# Altium schematic symbol library WA-SMSE.SchLib: 22 symbols
Pins are listed as number, name and electrical type; pins without a type are passive.

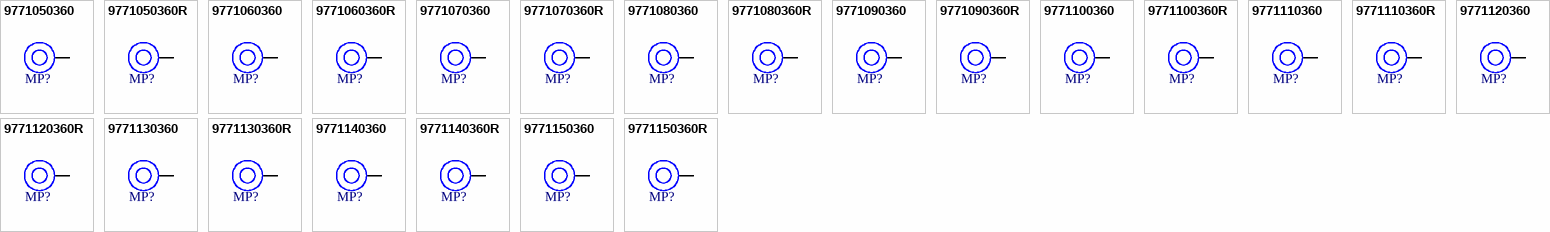
[diagram p0: symbols 9771050360 to 9771150360R]

## 9771050360
designator MP?, comment M3 x 5mm  (value not drawn)
WA-SMSE Steel Spacer with external thread, OD 6mm, M3 x 5mm; Manufacturer Part Number: 9771050360; Manufacturer: Wurth Elektronik; Surface: Tin; ComponentLink1Description: Website Link; ComponentLink1URL: https://www.we-online.com/redexpert/article/9771050360?ad; ComponentLink2Description: Datasheet Link; ComponentLink2URL: https://www.we-online.com/redexpert/spec/9771050360?ad; Category: SMT Spacers; Match Code: WA-SMSE; Mount: Surface Mount; Operating Temperature Max: 150°C; Operating Temperature Min: -55°C; Packaging: Bulk; Height: 5mm; Material: Steel; Outside Diameter: 6mm; Thread Size: M3
footprint 9771050360
pins: 1

## 9771050360R
designator MP?, comment M3 x 5mm  (value not drawn)
WA-SMSE Steel Spacer with external thread, OD 6mm, M3 x 5mm; Manufacturer Part Number: 9771050360R; Manufacturer: Wurth Elektronik; Surface: Tin; ComponentLink1Description: Website Link; ComponentLink1URL: https://www.we-online.com/redexpert/article/9771050360R?ad; ComponentLink2Description: Datasheet Link; ComponentLink2URL: https://www.we-online.com/redexpert/spec/9771050360R?ad; Category: SMT Spacers; Match Code: WA-SMSE; Mount: Surface Mount; Operating Temperature Max: 150°C; Operating Temperature Min: -55°C; Packaging: Tape and Reel; Height: 5mm; Material: Steel; Outside Diameter: 6mm; Thread Size: M3
footprint 9771050360
pins: 1

## 9771060360
designator MP?, comment M3 x 6mm  (value not drawn)
WA-SMSE Steel Spacer with external thread, OD 6mm, M3 x 6mm; Manufacturer Part Number: 9771060360; Manufacturer: Wurth Elektronik; Surface: Tin; ComponentLink1Description: Website Link; ComponentLink1URL: https://www.we-online.com/redexpert/article/9771060360?ad; ComponentLink2Description: Datasheet Link; ComponentLink2URL: https://www.we-online.com/redexpert/spec/9771060360?ad; Category: SMT Spacers; Match Code: WA-SMSE; Mount: Surface Mount; Operating Temperature Max: 150°C; Operating Temperature Min: -55°C; Packaging: Bulk; Height: 6mm; Material: Steel; Outside Diameter: 6mm; Thread Size: M3
footprint 9771060360
pins: 1

## 9771060360R
designator MP?, comment M3 x 6mm  (value not drawn)
WA-SMSE Steel Spacer with external thread, OD 6mm, M3 x 6mm; Manufacturer Part Number: 9771060360R; Manufacturer: Wurth Elektronik; Surface: Tin; ComponentLink1Description: Website Link; ComponentLink1URL: https://www.we-online.com/redexpert/article/9771060360R?ad; ComponentLink2Description: Datasheet Link; ComponentLink2URL: https://www.we-online.com/redexpert/spec/9771060360R?ad; Category: SMT Spacers; Match Code: WA-SMSE; Mount: Surface Mount; Operating Temperature Max: 150°C; Operating Temperature Min: -55°C; Packaging: Tape and Reel; Height: 6mm; Material: Steel; Outside Diameter: 6mm; Thread Size: M3
footprint 9771060360
pins: 1

## 9771070360
designator MP?, comment M3 x 7mm  (value not drawn)
WA-SMSE Steel Spacer with external thread, OD 6mm, M3 x 7mm; Manufacturer Part Number: 9771070360; Manufacturer: Wurth Elektronik; Surface: Tin; ComponentLink1Description: Website Link; ComponentLink1URL: https://www.we-online.com/redexpert/article/9771070360?ad; ComponentLink2Description: Datasheet Link; ComponentLink2URL: https://www.we-online.com/redexpert/spec/9771070360?ad; Category: SMT Spacers; Match Code: WA-SMSE; Mount: Surface Mount; Operating Temperature Max: 150°C; Operating Temperature Min: -55°C; Packaging: Bulk; Height: 7mm; Material: Steel; Outside Diameter: 6mm; Thread Size: M3
footprint 9771070360
pins: 1

## 9771070360R
designator MP?, comment M3 x 7mm  (value not drawn)
WA-SMSE Steel Spacer with external thread, OD 6mm, M3 x 7mm; Manufacturer Part Number: 9771070360R; Manufacturer: Wurth Elektronik; Surface: Tin; ComponentLink1Description: Website Link; ComponentLink1URL: https://www.we-online.com/redexpert/article/9771070360R?ad; ComponentLink2Description: Datasheet Link; ComponentLink2URL: https://www.we-online.com/redexpert/spec/9771070360R?ad; Category: SMT Spacers; Match Code: WA-SMSE; Mount: Surface Mount; Operating Temperature Max: 150°C; Operating Temperature Min: -55°C; Packaging: Tape and Reel; Height: 7mm; Material: Steel; Outside Diameter: 6mm; Thread Size: M3
footprint 9771070360
pins: 1

## 9771080360
designator MP?, comment M3 x 8mm  (value not drawn)
WA-SMSE Steel Spacer with external thread, OD 6mm, M3 x 8mm; Manufacturer Part Number: 9771080360; Manufacturer: Wurth Elektronik; Surface: Tin; ComponentLink1Description: Website Link; ComponentLink1URL: https://www.we-online.com/redexpert/article/9771080360?ad; ComponentLink2Description: Datasheet Link; ComponentLink2URL: https://www.we-online.com/redexpert/spec/9771080360?ad; Category: SMT Spacers; Match Code: WA-SMSE; Mount: Surface Mount; Operating Temperature Max: 150°C; Operating Temperature Min: -55°C; Packaging: Bulk; Height: 8mm; Material: Steel; Outside Diameter: 6mm; Thread Size: M3
footprint 9771080360
pins: 1

## 9771080360R
designator MP?, comment M3 x 8mm  (value not drawn)
WA-SMSE Steel Spacer with external thread, OD 6mm, M3 x 8mm; Manufacturer Part Number: 9771080360R; Manufacturer: Wurth Elektronik; Surface: Tin; ComponentLink1Description: Website Link; ComponentLink1URL: https://www.we-online.com/redexpert/article/9771080360R?ad; ComponentLink2Description: Datasheet Link; ComponentLink2URL: https://www.we-online.com/redexpert/spec/9771080360R?ad; Category: SMT Spacers; Match Code: WA-SMSE; Mount: Surface Mount; Operating Temperature Max: 150°C; Operating Temperature Min: -55°C; Packaging: Tape and Reel; Height: 8mm; Material: Steel; Outside Diameter: 6mm; Thread Size: M3
footprint 9771080360
pins: 1

## 9771090360
designator MP?, comment M3 x 9mm  (value not drawn)
WA-SMSE Steel Spacer with external thread, OD 6mm, M3 x 9mm; Manufacturer Part Number: 9771090360; Manufacturer: Wurth Elektronik; Surface: Tin; ComponentLink1Description: Website Link; ComponentLink1URL: https://www.we-online.com/redexpert/article/9771090360?ad; ComponentLink2Description: Datasheet Link; ComponentLink2URL: https://www.we-online.com/redexpert/spec/9771090360?ad; Category: SMT Spacers; Match Code: WA-SMSE; Mount: Surface Mount; Operating Temperature Max: 150°C; Operating Temperature Min: -55°C; Packaging: Bulk; Height: 9mm; Material: Steel; Outside Diameter: 6mm; Thread Size: M3
footprint 9771090360
pins: 1

## 9771090360R
designator MP?, comment M3 x 9mm  (value not drawn)
WA-SMSE Steel Spacer with external thread, OD 6mm, M3 x 9mm; Manufacturer Part Number: 9771090360R; Manufacturer: Wurth Elektronik; Surface: Tin; ComponentLink1Description: Website Link; ComponentLink1URL: https://www.we-online.com/redexpert/article/9771090360R?ad; ComponentLink2Description: Datasheet Link; ComponentLink2URL: https://www.we-online.com/redexpert/spec/9771090360R?ad; Category: SMT Spacers; Match Code: WA-SMSE; Mount: Surface Mount; Operating Temperature Max: 150°C; Operating Temperature Min: -55°C; Packaging: Tape and Reel; Height: 9mm; Material: Steel; Outside Diameter: 6mm; Thread Size: M3
footprint 9771090360
pins: 1

## 9771100360
designator MP?, comment M3 x 10mm  (value not drawn)
WA-SMSE Steel Spacer with external thread, OD 6mm, M3 x 10mm; Manufacturer Part Number: 9771100360; Manufacturer: Wurth Elektronik; Surface: Tin; ComponentLink1Description: Website Link; ComponentLink1URL: https://www.we-online.com/redexpert/article/9771100360?ad; ComponentLink2Description: Datasheet Link; ComponentLink2URL: https://www.we-online.com/redexpert/spec/9771100360?ad; Category: SMT Spacers; Match Code: WA-SMSE; Mount: Surface Mount; Operating Temperature Max: 150°C; Operating Temperature Min: -55°C; Packaging: Bulk; Height: 10mm; Material: Steel; Outside Diameter: 6mm; Thread Size: M3
footprint 9771100360
pins: 1

## 9771100360R
designator MP?, comment M3 x 10mm  (value not drawn)
WA-SMSE Steel Spacer with external thread, OD 6mm, M3 x 10mm; Manufacturer Part Number: 9771100360R; Manufacturer: Wurth Elektronik; Surface: Tin; ComponentLink1Description: Website Link; ComponentLink1URL: https://www.we-online.com/redexpert/article/9771100360R?ad; ComponentLink2Description: Datasheet Link; ComponentLink2URL: https://www.we-online.com/redexpert/spec/9771100360R?ad; Category: SMT Spacers; Match Code: WA-SMSE; Mount: Surface Mount; Operating Temperature Max: 150°C; Operating Temperature Min: -55°C; Packaging: Tape and Reel; Height: 10mm; Material: Steel; Outside Diameter: 6mm; Thread Size: M3
footprint 9771100360
pins: 1

## 9771110360
designator MP?, comment M3 x 11mm  (value not drawn)
WA-SMSE Steel Spacer with external thread, OD 6mm, M3 x 11mm; Manufacturer Part Number: 9771110360; Manufacturer: Wurth Elektronik; Surface: Tin; ComponentLink1Description: Website Link; ComponentLink1URL: https://www.we-online.com/redexpert/article/9771110360?ad; ComponentLink2Description: Datasheet Link; ComponentLink2URL: https://www.we-online.com/redexpert/spec/9771110360?ad; Category: SMT Spacers; Match Code: WA-SMSE; Mount: Surface Mount; Operating Temperature Max: 150°C; Operating Temperature Min: -55°C; Packaging: Bulk; Height: 11mm; Material: Steel; Outside Diameter: 6mm; Thread Size: M3
footprint 9771110360
pins: 1

## 9771110360R
designator MP?, comment M3 x 11mm  (value not drawn)
WA-SMSE Steel Spacer with external thread, OD 6mm, M3 x 11mm; Manufacturer Part Number: 9771110360R; Manufacturer: Wurth Elektronik; Surface: Tin; ComponentLink1Description: Website Link; ComponentLink1URL: https://www.we-online.com/redexpert/article/9771110360R?ad; ComponentLink2Description: Datasheet Link; ComponentLink2URL: https://www.we-online.com/redexpert/spec/9771110360R?ad; Category: SMT Spacers; Match Code: WA-SMSE; Mount: Surface Mount; Operating Temperature Max: 150°C; Operating Temperature Min: -55°C; Packaging: Tape and Reel; Height: 11mm; Material: Steel; Outside Diameter: 6mm; Thread Size: M3
footprint 9771110360
pins: 1

## 9771120360
designator MP?, comment M3 x 12mm  (value not drawn)
WA-SMSE Steel Spacer with external thread, OD 6mm, M3 x 12mm; Manufacturer Part Number: 9771120360; Manufacturer: Wurth Elektronik; Surface: Tin; ComponentLink1Description: Website Link; ComponentLink1URL: https://www.we-online.com/redexpert/article/9771120360?ad; ComponentLink2Description: Datasheet Link; ComponentLink2URL: https://www.we-online.com/redexpert/spec/9771120360?ad; Category: SMT Spacers; Match Code: WA-SMSE; Mount: Surface Mount; Operating Temperature Max: 150°C; Operating Temperature Min: -55°C; Packaging: Bulk; Height: 12mm; Material: Steel; Outside Diameter: 6mm; Thread Size: M3
footprint 9771120360
pins: 1

## 9771120360R
designator MP?, comment M3 x 12mm  (value not drawn)
WA-SMSE Steel Spacer with external thread, OD 6mm, M3 x 12mm; Manufacturer Part Number: 9771120360R; Manufacturer: Wurth Elektronik; Surface: Tin; ComponentLink1Description: Website Link; ComponentLink1URL: https://www.we-online.com/redexpert/article/9771120360R?ad; ComponentLink2Description: Datasheet Link; ComponentLink2URL: https://www.we-online.com/redexpert/spec/9771120360R?ad; Category: SMT Spacers; Match Code: WA-SMSE; Mount: Surface Mount; Operating Temperature Max: 150°C; Operating Temperature Min: -55°C; Packaging: Tape and Reel; Height: 12mm; Material: Steel; Outside Diameter: 6mm; Thread Size: M3
footprint 9771120360
pins: 1

## 9771130360
designator MP?, comment M3 x 13mm  (value not drawn)
WA-SMSE Steel Spacer with external thread, OD 6mm, M3 x 13mm; Manufacturer Part Number: 9771130360; Manufacturer: Wurth Elektronik; Surface: Tin; ComponentLink1Description: Website Link; ComponentLink1URL: https://www.we-online.com/redexpert/article/9771130360?ad; ComponentLink2Description: Datasheet Link; ComponentLink2URL: https://www.we-online.com/redexpert/spec/9771130360?ad; Category: SMT Spacers; Match Code: WA-SMSE; Mount: Surface Mount; Operating Temperature Max: 150°C; Operating Temperature Min: -55°C; Packaging: Bulk; Height: 13mm; Material: Steel; Outside Diameter: 6mm; Thread Size: M3
footprint 9771130360
pins: 1

## 9771130360R
designator MP?, comment M3 x 13mm  (value not drawn)
WA-SMSE Steel Spacer with external thread, OD 6mm, M3 x 13mm; Manufacturer Part Number: 9771130360R; Manufacturer: Wurth Elektronik; Surface: Tin; ComponentLink1Description: Website Link; ComponentLink1URL: https://www.we-online.com/redexpert/article/9771130360R?ad; ComponentLink2Description: Datasheet Link; ComponentLink2URL: https://www.we-online.com/redexpert/spec/9771130360R?ad; Category: SMT Spacers; Match Code: WA-SMSE; Mount: Surface Mount; Operating Temperature Max: 150°C; Operating Temperature Min: -55°C; Packaging: Tape and Reel; Height: 13mm; Material: Steel; Outside Diameter: 6mm; Thread Size: M3
footprint 9771130360
pins: 1

## 9771140360
designator MP?, comment M3 x 14mm  (value not drawn)
WA-SMSE Steel Spacer with external thread, OD 6mm, M3 x 14mm; Manufacturer Part Number: 9771140360; Manufacturer: Wurth Elektronik; Surface: Tin; ComponentLink1Description: Website Link; ComponentLink1URL: https://www.we-online.com/redexpert/article/9771140360?ad; ComponentLink2Description: Datasheet Link; ComponentLink2URL: https://www.we-online.com/redexpert/spec/9771140360?ad; Category: SMT Spacers; Match Code: WA-SMSE; Mount: Surface Mount; Operating Temperature Max: 150°C; Operating Temperature Min: -55°C; Packaging: Bulk; Height: 14mm; Material: Steel; Outside Diameter: 6mm; Thread Size: M3
footprint 9771140360
pins: 1

## 9771140360R
designator MP?, comment M3 x 14mm  (value not drawn)
WA-SMSE Steel Spacer with external thread, OD 6mm, M3 x 14mm; Manufacturer Part Number: 9771140360R; Manufacturer: Wurth Elektronik; Surface: Tin; ComponentLink1Description: Website Link; ComponentLink1URL: https://www.we-online.com/redexpert/article/9771140360R?ad; ComponentLink2Description: Datasheet Link; ComponentLink2URL: https://www.we-online.com/redexpert/spec/9771140360R?ad; Category: SMT Spacers; Match Code: WA-SMSE; Mount: Surface Mount; Operating Temperature Max: 150°C; Operating Temperature Min: -55°C; Packaging: Tape and Reel; Height: 14mm; Material: Steel; Outside Diameter: 6mm; Thread Size: M3
footprint 9771140360
pins: 1

## 9771150360
designator MP?, comment M3 x 15mm  (value not drawn)
WA-SMSE Steel Spacer with external thread, OD 6mm, M3 x 15mm; Manufacturer Part Number: 9771150360; Manufacturer: Wurth Elektronik; Surface: Tin; ComponentLink1Description: Website Link; ComponentLink1URL: https://www.we-online.com/redexpert/article/9771150360?ad; ComponentLink2Description: Datasheet Link; ComponentLink2URL: https://www.we-online.com/redexpert/spec/9771150360?ad; Category: SMT Spacers; Match Code: WA-SMSE; Mount: Surface Mount; Operating Temperature Max: 150°C; Operating Temperature Min: -55°C; Packaging: Bulk; Height: 15mm; Material: Steel; Outside Diameter: 6mm; Thread Size: M3
footprint 9771150360
pins: 1

## 9771150360R
designator MP?, comment M3 x 15mm  (value not drawn)
WA-SMSE Steel Spacer with external thread, OD 6mm, M3 x 15mm; Manufacturer Part Number: 9771150360R; Manufacturer: Wurth Elektronik; Surface: Tin; ComponentLink1Description: Website Link; ComponentLink1URL: https://www.we-online.com/redexpert/article/9771150360R?ad; ComponentLink2Description: Datasheet Link; ComponentLink2URL: https://www.we-online.com/redexpert/spec/9771150360R?ad; Category: SMT Spacers; Match Code: WA-SMSE; Mount: Surface Mount; Operating Temperature Max: 150°C; Operating Temperature Min: -55°C; Packaging: Tape and Reel; Height: 15mm; Material: Steel; Outside Diameter: 6mm; Thread Size: M3
footprint 9771150360
pins: 1